# Altium schematic symbol library kruvi_auk.SchLib: 1 symbol
Pins are listed as number, name and electrical type; pins without a type are passive.

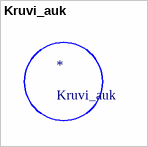
[diagram p0: symbol Kruvi_auk]

## Kruvi_auk
designator *
footprint kruvi_auk